# EAGLE library part L96-M33 (library L96-M33)
Navigation BeiDou, Galileo, GLONASS, GPS, GNSS Transceiver Module 1.561GHz, 1.575GHz, 1.602GHz Integrated, Chip Surface Mount Source: Datasheet <https://www.digikey.com/en/products/detail/quectel/L96-M33/13278244?msockid=3e3afa68a50969ca3057ef1ca4c9684b>
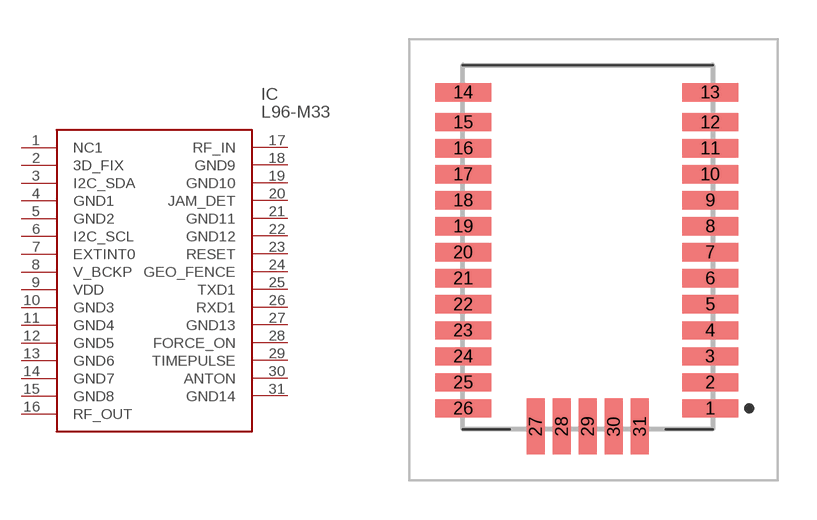
[diagram p0: symbol with the pads of L96; footprint L96]

Designator prefix IC

## L96-M33 (Arrow_Part_Number: L96-M33; Arrow_Price-Stock: https://www.arrow.com/en/products/l96-m33/quectel-wireless-solutions-co-ltd?utm_currency=USD&region=nac; Description: Navigation BeiDou, Galileo, GLONASS, GPS, GNSS Transceiver Module 1.561GHz, 1.575GHz, 1.602GHz Integrated, Chip Surface Mount; Height: mm; Manufacturer_Name: Quectel; Manufacturer_Part_Number: L96-M33; Mouser_Part_Number: 277-L96-M33; Mouser_Price-Stock: https://www.mouser.co.uk/ProductDetail/Quectel/L96-M33?qs=GedFDFLaBXHZlDfU1tecmQ%3D%3D)  [L96]
1  NC1
2  3D_FIX
3  I2C_SDA
4  GND1
5  GND2
6  I2C_SCL
7  EXTINT0
8  V_BCKP
9  VDD
10  GND3
11  GND4
12  GND5
13  GND6
14  GND7
15  GND8
16  RF_OUT
17  RF_IN
18  GND9
19  GND10
20  JAM_DET
21  GND11
22  GND12
23  RESET
24  GEO_FENCE
25  TXD1
26  RXD1
27  GND13
28  FORCE_ON
29  TIMEPULSE
30  ANTON
31  GND14

## Footprint L96 (pad centres in mm)
L96_1
smd 2.15 x 0.7: 1 4.746,-5.714; 2 4.746,-4.714; 3 4.746,-3.713; 4 4.746,-2.713; 5 4.746,-1.713; 6 4.746,-0.713; 7 4.746,0.287; 8 4.746,1.287; 9 4.746,2.287; 10 4.746,3.287; 11 4.746,4.287; 12 4.746,5.287; 13 4.746,6.438; 14 -4.744,6.438; 15 -4.744,5.287; 16 -4.744,4.287; 17 -4.744,3.287; 18 -4.744,2.287; 19 -4.744,1.287; 20 -4.744,0.287; 21 -4.744,-0.713; 22 -4.744,-1.713; 23 -4.744,-2.713; 24 -4.744,-3.713; 25 -4.744,-4.714; 26 -4.744,-5.714
smd 0.7 x 2.15: 27 -1.954,-6.412; 28 -0.954,-6.412; 29 0.046,-6.412; 30 1.046,-6.412; 31 2.046,-6.412